# EAGLE library part STM32H743ZI (library alvie)
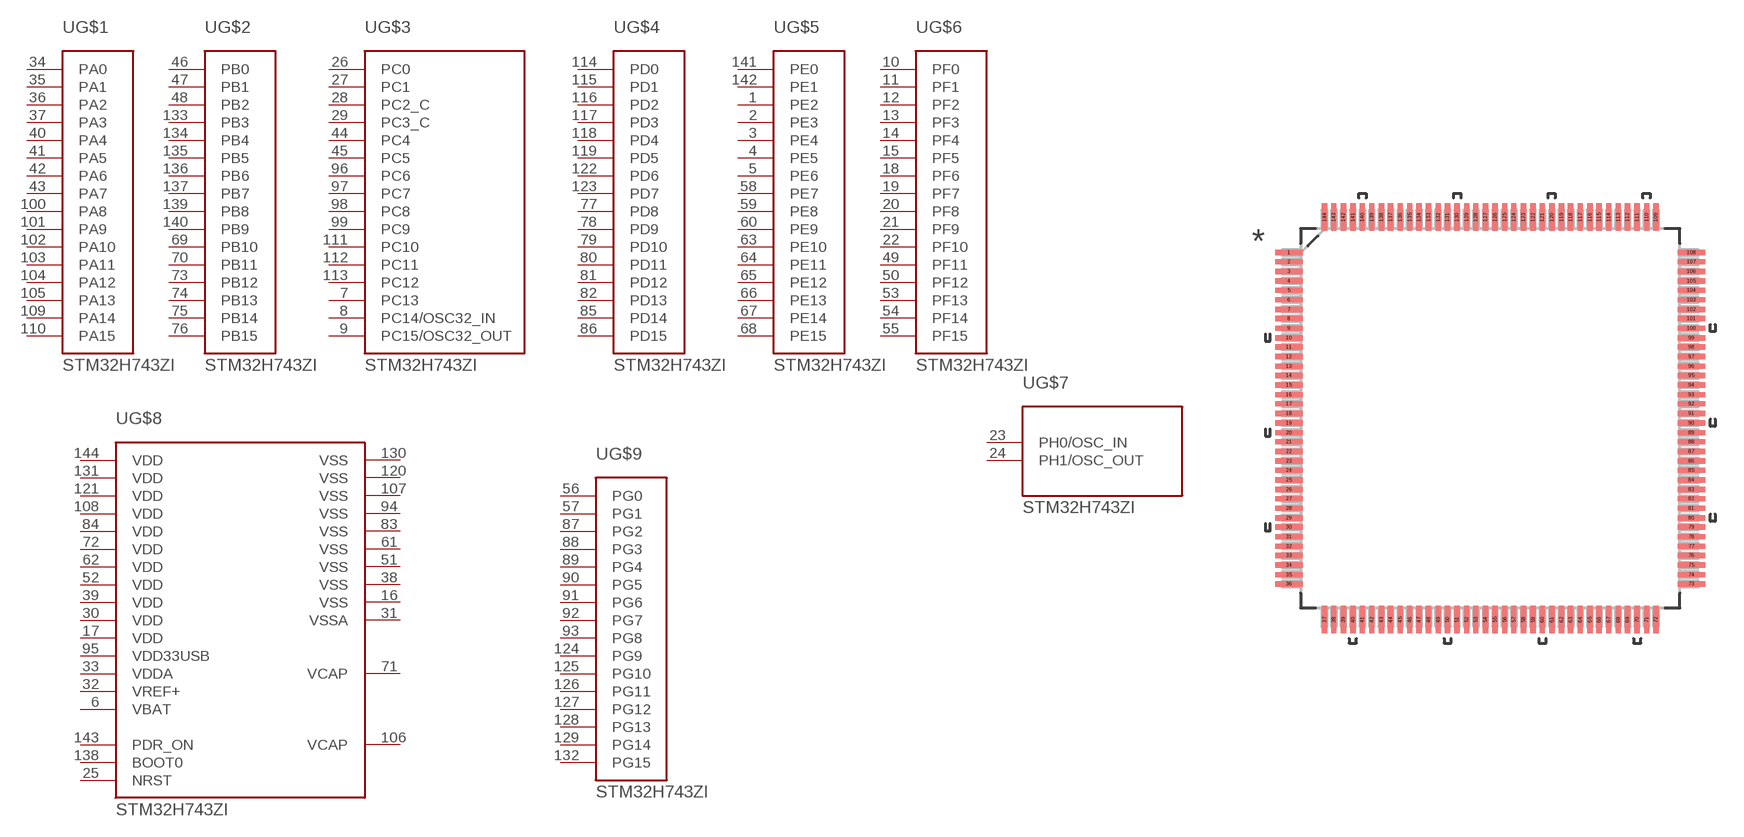
[diagram p61: symbol with the pads of QFP50P2200X2200X160-144N; footprint QFP50P2200X2200X160-144N]

Designator prefix -; gates G$1=STM32H-PA G$2=STM32H-PB G$3=STM32H-PC G$4=STM32H-PD G$5=STM32H-PE G$6=STM32H-PF G$7=STM32H-PH G$8=STM32H-PWR-CTL G$9=STM32H-PG

## STM32H743ZI  [QFP50P2200X2200X160-144N]
1  G$5:PE2
2  G$5:PE3
3  G$5:PE4
4  G$5:PE5
5  G$5:PE6
6  G$8:VBAT  pwr
7  G$3:PC13
8  G$3:PC14/OSC32_IN
9  G$3:PC15/OSC32_OUT
10  G$6:PF0
11  G$6:PF1
12  G$6:PF2
13  G$6:PF3
14  G$6:PF4
15  G$6:PF5
16  G$8:VSS  pwr
17  G$8:VDD  pwr
18  G$6:PF6
19  G$6:PF7
20  G$6:PF8
21  G$6:PF9
22  G$6:PF10
23  G$7:PH0/OSC_IN
24  G$7:PH1/OSC_OUT
25  G$8:NRST  in
26  G$3:PC0
27  G$3:PC1
28  G$3:PC2_C
29  G$3:PC3_C
30  G$8:VDD  pwr
31  G$8:VSSA  pwr
32  G$8:VREF+  pwr
33  G$8:VDDA  pwr
34  G$1:PA0
35  G$1:PA1
36  G$1:PA2
37  G$1:PA3
38  G$8:VSS  pwr
39  G$8:VDD  pwr
40  G$1:PA4
41  G$1:PA5
42  G$1:PA6
43  G$1:PA7
44  G$3:PC4
45  G$3:PC5
46  G$2:PB0
47  G$2:PB1
48  G$2:PB2
49  G$6:PF11
50  G$6:PF12
51  G$8:VSS  pwr
52  G$8:VDD  pwr
53  G$6:PF13
54  G$6:PF14
55  G$6:PF15
56  G$9:PG0
57  G$9:PG1
58  G$5:PE7
59  G$5:PE8
60  G$5:PE9
61  G$8:VSS  pwr
62  G$8:VDD  pwr
63  G$5:PE10
64  G$5:PE11
65  G$5:PE12
66  G$5:PE13
67  G$5:PE14
68  G$5:PE15
69  G$2:PB10
70  G$2:PB11
71  G$8:VCAP  pas
72  G$8:VDD  pwr
73  G$2:PB12
74  G$2:PB13
75  G$2:PB14
76  G$2:PB15
77  G$4:PD8
78  G$4:PD9
79  G$4:PD10
80  G$4:PD11
81  G$4:PD12
82  G$4:PD13
83  G$8:VSS  pwr
84  G$8:VDD  pwr
85  G$4:PD14
86  G$4:PD15
87  G$9:PG2
88  G$9:PG3
89  G$9:PG4
90  G$9:PG5
91  G$9:PG6
92  G$9:PG7
93  G$9:PG8
94  G$8:VSS  pwr
95  G$8:VDD33USB  pwr
96  G$3:PC6
97  G$3:PC7
98  G$3:PC8
99  G$3:PC9
100  G$1:PA8
101  G$1:PA9
102  G$1:PA10
103  G$1:PA11
104  G$1:PA12
105  G$1:PA13
106  G$8:VCAP  pas
107  G$8:VSS  pwr
108  G$8:VDD  pwr
109  G$1:PA14
110  G$1:PA15
111  G$3:PC10
112  G$3:PC11
113  G$3:PC12
114  G$4:PD0
115  G$4:PD1
116  G$4:PD2
117  G$4:PD3
118  G$4:PD4
119  G$4:PD5
120  G$8:VSS  pwr
121  G$8:VDD  pwr
122  G$4:PD6
123  G$4:PD7
124  G$9:PG9
125  G$9:PG10
126  G$9:PG11
127  G$9:PG12
128  G$9:PG13
129  G$9:PG14
130  G$8:VSS  pwr
131  G$8:VDD  pwr
132  G$9:PG15
133  G$2:PB3
134  G$2:PB4
135  G$2:PB5
136  G$2:PB6
137  G$2:PB7
138  G$8:BOOT0  in
139  G$2:PB8
140  G$2:PB9
141  G$5:PE0
142  G$5:PE1
143  G$8:PDR_ON  in
144  G$8:VDD  pwr

## Footprint QFP50P2200X2200X160-144N (pad centres in mm)
smd 1.473 x 0.279: 1 -10.617,8.738; 2 -10.617,8.255; 3 -10.617,7.747; 4 -10.617,7.239; 5 -10.617,6.756; 6 -10.617,6.248; 7 -10.617,5.74; 8 -10.617,5.258; 9 -10.617,4.75; 10 -10.617,4.242; 11 -10.617,3.759; 12 -10.617,3.251; 13 -10.617,2.743; 14 -10.617,2.261; 15 -10.617,1.753; 16 -10.617,1.245; 17 -10.617,0.762; 18 -10.617,0.254; 19 -10.617,-0.254; 20 -10.617,-0.762; 21 -10.617,-1.245; 22 -10.617,-1.753; 23 -10.617,-2.261; 24 -10.617,-2.743; 25 -10.617,-3.251; 26 -10.617,-3.759; 27 -10.617,-4.242; 28 -10.617,-4.75; 29 -10.617,-5.258; 30 -10.617,-5.74; 31 -10.617,-6.248; 32 -10.617,-6.756; 33 -10.617,-7.239; 34 -10.617,-7.747; 35 -10.617,-8.255; 36 -10.617,-8.738; 73 10.617,-8.738; 74 10.617,-8.255; 75 10.617,-7.747; 76 10.617,-7.239; 77 10.617,-6.756; 78 10.617,-6.248; 79 10.617,-5.74; 80 10.617,-5.258; 81 10.617,-4.75; 82 10.617,-4.242; 83 10.617,-3.759; 84 10.617,-3.251; 85 10.617,-2.743; 86 10.617,-2.261; 87 10.617,-1.753; 88 10.617,-1.245; 89 10.617,-0.762; 90 10.617,-0.254; 91 10.617,0.254; 92 10.617,0.762; 93 10.617,1.245; 94 10.617,1.753; 95 10.617,2.261; 96 10.617,2.743; 97 10.617,3.251; 98 10.617,3.759; 99 10.617,4.242; 100 10.617,4.75; 101 10.617,5.258; 102 10.617,5.74; 103 10.617,6.248; 104 10.617,6.756; 105 10.617,7.239; 106 10.617,7.747; 107 10.617,8.255; 108 10.617,8.738
smd 0.279 x 1.473: 37 -8.738,-10.617; 38 -8.255,-10.617; 39 -7.747,-10.617; 40 -7.239,-10.617; 41 -6.756,-10.617; 42 -6.248,-10.617; 43 -5.74,-10.617; 44 -5.258,-10.617; 45 -4.75,-10.617; 46 -4.242,-10.617; 47 -3.759,-10.617; 48 -3.251,-10.617; 49 -2.743,-10.617; 50 -2.261,-10.617; 51 -1.753,-10.617; 52 -1.245,-10.617; 53 -0.762,-10.617; 54 -0.254,-10.617; 55 0.254,-10.617; 56 0.762,-10.617; 57 1.245,-10.617; 58 1.753,-10.617; 59 2.261,-10.617; 60 2.743,-10.617; 61 3.251,-10.617; 62 3.759,-10.617; 63 4.242,-10.617; 64 4.75,-10.617; 65 5.258,-10.617; 66 5.74,-10.617; 67 6.248,-10.617; 68 6.756,-10.617; 69 7.239,-10.617; 70 7.747,-10.617; 71 8.255,-10.617; 72 8.738,-10.617; 109 8.738,10.617; 110 8.255,10.617; 111 7.747,10.617; 112 7.239,10.617; 113 6.756,10.617; 114 6.248,10.617; 115 5.74,10.617; 116 5.258,10.617; 117 4.75,10.617; 118 4.242,10.617; 119 3.759,10.617; 120 3.251,10.617; 121 2.743,10.617; 122 2.261,10.617; 123 1.753,10.617; 124 1.245,10.617; 125 0.762,10.617; 126 0.254,10.617; 127 -0.254,10.617; 128 -0.762,10.617; 129 -1.245,10.617; 130 -1.753,10.617; 131 -2.261,10.617; 132 -2.743,10.617; 133 -3.251,10.617; 134 -3.759,10.617; 135 -4.242,10.617; 136 -4.75,10.617; 137 -5.258,10.617; 138 -5.74,10.617; 139 -6.248,10.617; 140 -6.756,10.617; 141 -7.239,10.617; 142 -7.747,10.617; 143 -8.255,10.617; 144 -8.738,10.617